# Altium integrated library TI Data Converters Analog to Digital Converter.IntLib: 2197 symbols (part 121 of 168)
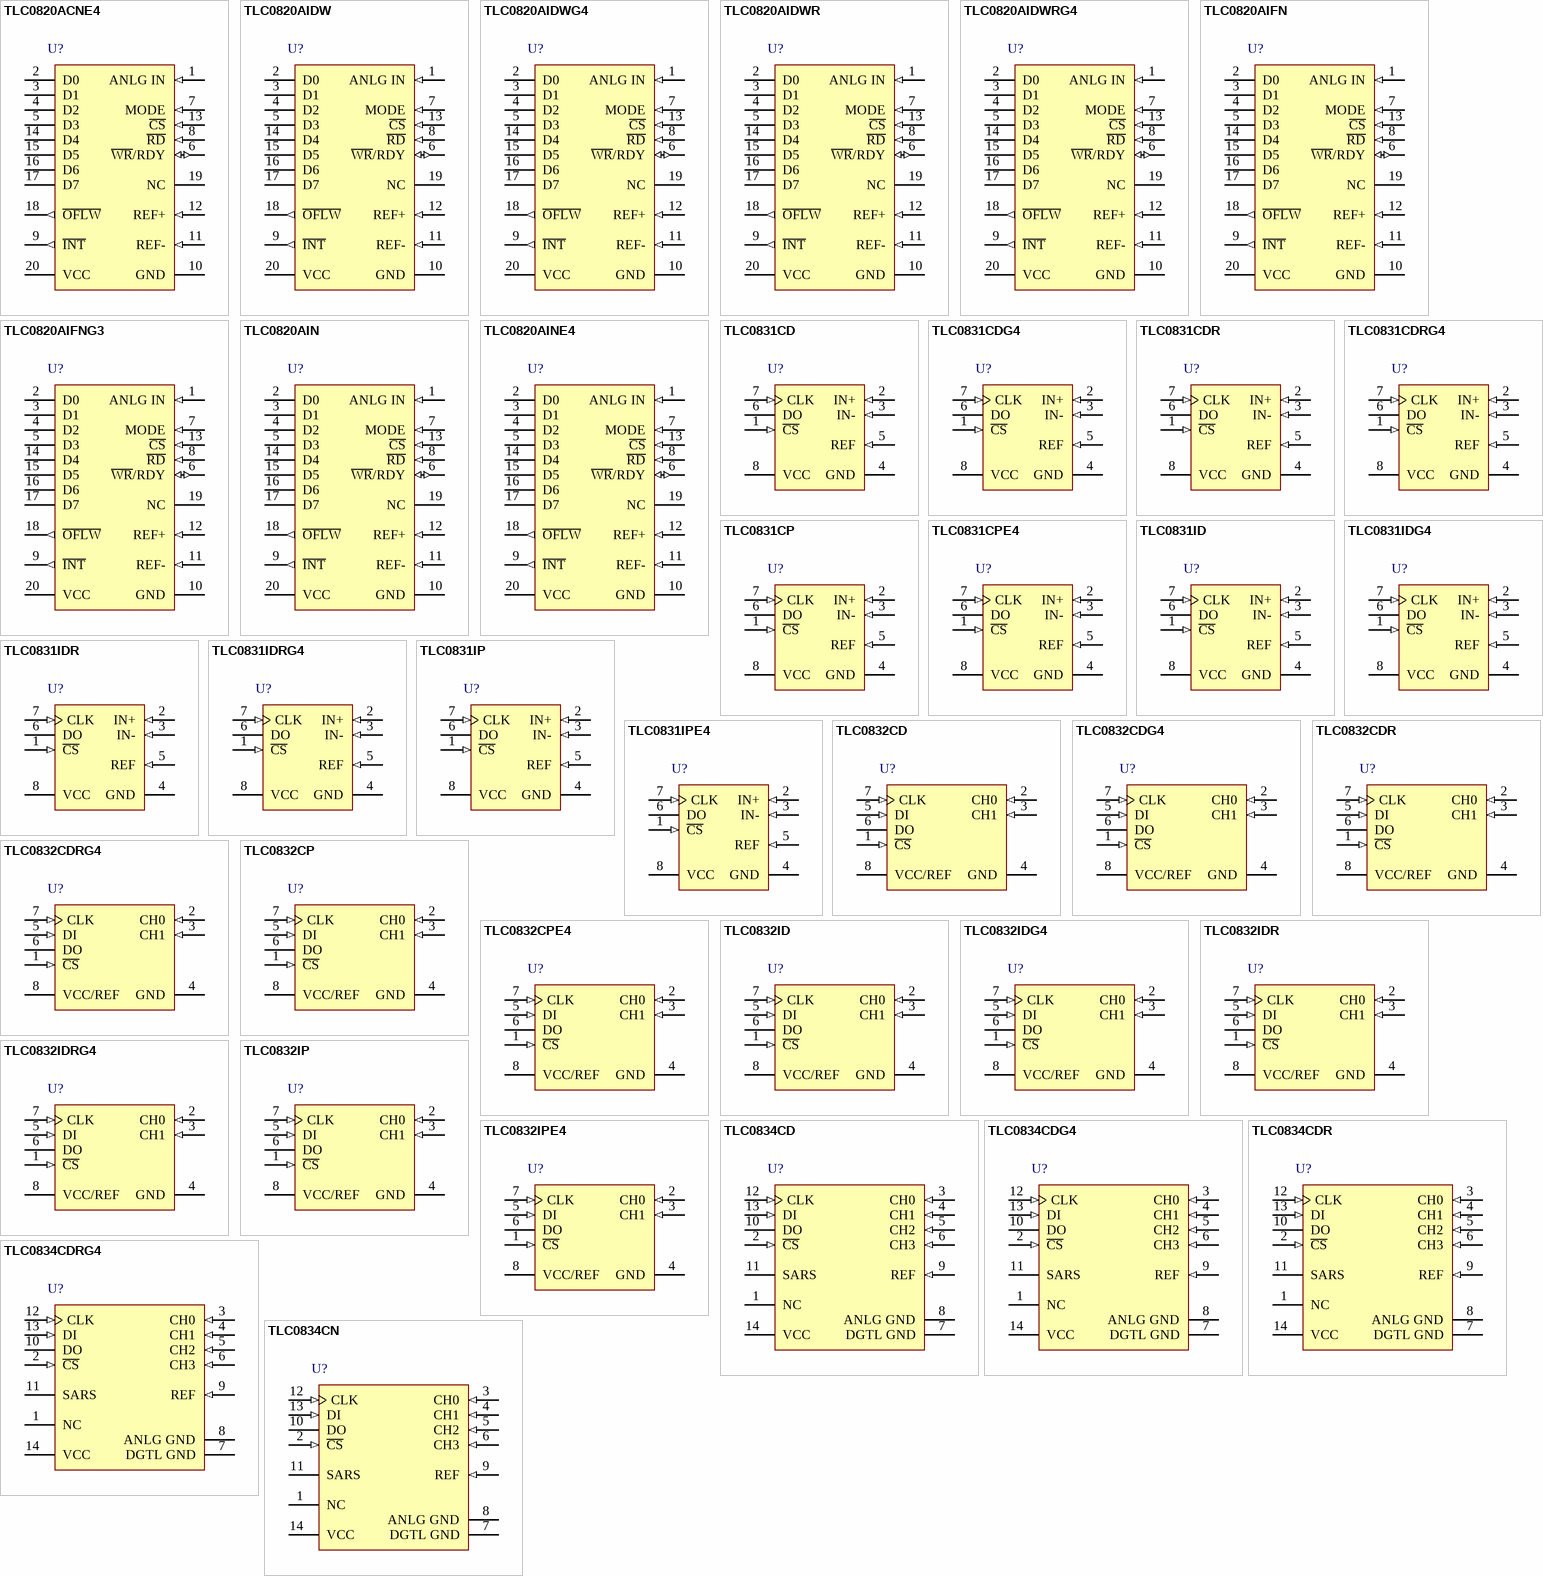
[diagram p246: symbols TLC0820ACNE4 to TLC0834CN]

## TLC0820AIFNG3
designator U?
8-Bit, 392 kSPS ADC Parallel Out, Microprocessor Peripheral, On-Chip Track-and-Hold, Single Channel, -40 to 85 degC, 20-pin PLCC (FN20), Green (RoHS & no Sb/Br); Manufacturer: Texas Instruments; PartNumber: TLC0820AIFNG3; # Input Channels: 1; Analog Voltage AV/DD(Max)(V): 8; Analog Voltage AV/DD(Min)(V): 4.5; Architecture: SAR; Interface: Parallel CMOS; Sample Rate (max)(SPS): 392k; SubFamily: Precision ADC (<=10MSPS); DatasheetVersion: SLAS064A; PackageVersion: 4040005/B, 03/1995; PackageReference: FN20; PackageDescription: 20-Pin Plastic Chip Carrier, Body 8.965 x 8.965 mm, Pitch 1.27 mm; Supplier 1: Digi-Key; Supplier Part Number 1: TLC2543IDBR-ND; Supplier 2: Mouser; Supplier Part Number 2: 595-TLC2543IDBR; Digital Supply(Max)(V): 8; Digital Supply(Min)(V): 4.5; Eco-Plan: Green (RoHS & no Sb/Br); Resolution(Bits): 8; Mounting Technology: Surface Mount; Code_JEDEC: MS-018; ComponentLink1Description: Manufacturer URL; ComponentLink1URL: http://www.ti.com/; ComponentLink2Description: Datasheet; ComponentLink2URL: http://www.ti.com/general/docs/lit/getliterature.tsp?genericPartNumber=TLC0820A&fileType=pdf; ComponentLink3Description: Package Specification; ComponentLink3URL: http://www.ti.com/litv/pdf/mplc004a
footprint TI-FN20_N (PLCC, 20-Leads, Body 8.965x8.965mm, Pitch 1.27mm, IPC Medium Density)
footprint TI-FN20_L (PLCC, 20-Leads, Body 8.965x8.965mm, Pitch 1.27mm, IPC High Density)
footprint TI-FN20_M (PLCC, 20-Leads, Body 8.965x8.965mm, Pitch 1.27mm, IPC Low Density)
pins: 1 ANLG IN (in) "Analog input", 2 D0 (hiz) "Digital, 3-state output data, bit 1 (LSB)", 3 D1 (hiz) "Digital, 3-state output data, bit 2", 4 D2 (hiz) "Digital, 3-state output data, bit 3", 5 D3 (hiz) "Digital, 3-state output data, bit 4", 6 ~{WR}/RDY (io) "Write ready. In the write-read mode with C\S\ low, the conversion is started on the falling edge of the W\R\ input signal. The result of the conversion is strobed into the output latch after the internal count-down delay (See Datasheet)", 7 MODE (in) "Mode select. MODE is internally tied to GND through a 50-uA current source, which acts like a pulldown resistor.When MODE is low, the read mode is selected. When MODE is high, the write-read mode is selected.", 8 ~{RD} (in) "Read. In the write-read mode with C\S\ low, the 3-state data outputs D0 through D7 are activated when R\D\ goes low. R\D\ can also be used to increase the conversion speed by reading data prior to the end of the internal (See Datasheet)", 9 ~{INT} (out) "Interrupt. In the write-read mode, the interrupt output (I\N\T\) going low indicates that the internal count-down delay time, td(int), is complete and the data result is in the output latch. The delay time td(int) is (See Datasheet)", 10 GND (power) "Ground", 11 REF- (in) "Reference voltage. REF- is placed on the bottom of the resistor ladder.", 12 REF+ (in) "Reference voltage. REF+ is placed on the top of the resistor ladder.", 13 ~{CS} (in) "Chip select. C\S\ must be low in order for R\D\ or W\R\ to be recognized by the ADC.", 14 D4 (hiz) "Digital, 3-state output data, bit 5", 15 D5 (hiz) "Digital, 3-state output data, bit 6", 16 D6 (hiz) "Digital, 3-state output data, bit 7", 17 D7 (hiz) "Digital, 3-state output data, bit 8 (MSB)", 18 ~{OFLW} (out) "Overflow. Normally O\F\L\W\ is a logical high. However, if the analog input is higher than Vref+, O\F\L\W\ will be low at the end of conversion. It can be used to cascade two or more devices to improve resolution (9 or 10 (See Datasheet)", 19 NC "No internal connection", 20 VCC (power) "Power supply voltage"

## TLC0820AIN
designator U?
8-Bit, 392 kSPS ADC Parallel Out, Microprocessor Peripheral, On-Chip Track-and-Hold, Single Channel, -40 to 85 degC, 20-pin DIP (N20), Pb-Free (RoHS); Manufacturer: Texas Instruments; PartNumber: TLC0820AIN; # Input Channels: 1; Analog Voltage AV/DD(Max)(V): 8; Analog Voltage AV/DD(Min)(V): 4.5; Architecture: SAR; Interface: Parallel CMOS; Sample Rate (max)(SPS): 392k; SubFamily: Precision ADC (<=10MSPS); DatasheetVersion: SLAS064A; PackageVersion: 4040049/E, 12/2002; PackageReference: N20; PackageDescription: 20-Pin Plastic In-Line, Body 25.40 x 6.35 mm, Pitch 2.54 mm; Supplier 1: Digi-Key; Supplier Part Number 1: TLC2543IDBRG4-ND; Supplier 2: Mouser; Supplier Part Number 2: 595-TLC2543IDBRG4; Digital Supply(Max)(V): 8; Digital Supply(Min)(V): 4.5; Eco-Plan: Pb-Free (RoHS); Resolution(Bits): 8; Mounting Technology: Through Hole; Code_JEDEC: MS-001; ComponentLink1Description: Manufacturer URL; ComponentLink1URL: http://www.ti.com/; ComponentLink2Description: Datasheet; ComponentLink2URL: http://www.ti.com/general/docs/lit/getliterature.tsp?genericPartNumber=TLC0820A&fileType=pdf; ComponentLink3Description: Package Specification; ComponentLink3URL: http://www.ti.com/lit/ml/mpdi002c/mpdi002c.pdf
footprint TI-N20 (DIP, 20-Leads, Body 25.4x6.35 mm, Pitch 2.54 mm)
pins: 1 ANLG IN (in) "Analog input", 2 D0 (hiz) "Digital, 3-state output data, bit 1 (LSB)", 3 D1 (hiz) "Digital, 3-state output data, bit 2", 4 D2 (hiz) "Digital, 3-state output data, bit 3", 5 D3 (hiz) "Digital, 3-state output data, bit 4", 6 ~{WR}/RDY (io) "Write ready. In the write-read mode with C\S\ low, the conversion is started on the falling edge of the W\R\ input signal. The result of the conversion is strobed into the output latch after the internal count-down delay (See Datasheet)", 7 MODE (in) "Mode select. MODE is internally tied to GND through a 50-uA current source, which acts like a pulldown resistor.When MODE is low, the read mode is selected. When MODE is high, the write-read mode is selected.", 8 ~{RD} (in) "Read. In the write-read mode with C\S\ low, the 3-state data outputs D0 through D7 are activated when R\D\ goes low. R\D\ can also be used to increase the conversion speed by reading data prior to the end of the internal (See Datasheet)", 9 ~{INT} (out) "Interrupt. In the write-read mode, the interrupt output (I\N\T\) going low indicates that the internal count-down delay time, td(int), is complete and the data result is in the output latch. The delay time td(int) is (See Datasheet)", 10 GND (power) "Ground", 11 REF- (in) "Reference voltage. REF- is placed on the bottom of the resistor ladder.", 12 REF+ (in) "Reference voltage. REF+ is placed on the top of the resistor ladder.", 13 ~{CS} (in) "Chip select. C\S\ must be low in order for R\D\ or W\R\ to be recognized by the ADC.", 14 D4 (hiz) "Digital, 3-state output data, bit 5", 15 D5 (hiz) "Digital, 3-state output data, bit 6", 16 D6 (hiz) "Digital, 3-state output data, bit 7", 17 D7 (hiz) "Digital, 3-state output data, bit 8 (MSB)", 18 ~{OFLW} (out) "Overflow. Normally O\F\L\W\ is a logical high. However, if the analog input is higher than Vref+, O\F\L\W\ will be low at the end of conversion. It can be used to cascade two or more devices to improve resolution (9 or 10 (See Datasheet)", 19 NC "No internal connection", 20 VCC (power) "Power supply voltage"

## TLC0820AINE4
designator U?
8-Bit, 392 kSPS ADC Parallel Out, Microprocessor Peripheral, On-Chip Track-and-Hold, Single Channel, -40 to 85 degC, 20-pin DIP (N20), Pb-Free (RoHS); Manufacturer: Texas Instruments; PartNumber: TLC0820AINE4; # Input Channels: 1; Analog Voltage AV/DD(Max)(V): 8; Analog Voltage AV/DD(Min)(V): 4.5; Architecture: SAR; Interface: Parallel CMOS; Sample Rate (max)(SPS): 392k; SubFamily: Precision ADC (<=10MSPS); DatasheetVersion: SLAS064A; PackageVersion: 4040049/E, 12/2002; PackageReference: N20; PackageDescription: 20-Pin Plastic In-Line, Body 25.40 x 6.35 mm, Pitch 2.54 mm; Supplier 1: Digi-Key; Supplier Part Number 1: 296-2900-5-ND; Supplier 2: Farnell; Supplier Part Number 2: 1564976; Supplier 3: Newark; Supplier Part Number 3: 08F9046; Supplier 4: Mouser; Supplier Part Number 4: 595-TLC2543IDW; Digital Supply(Max)(V): 8; Digital Supply(Min)(V): 4.5; Eco-Plan: Pb-Free (RoHS); Resolution(Bits): 8; Mounting Technology: Through Hole; Code_JEDEC: MS-001; ComponentLink1Description: Manufacturer URL; ComponentLink1URL: http://www.ti.com/; ComponentLink2Description: Datasheet; ComponentLink2URL: http://www.ti.com/general/docs/lit/getliterature.tsp?genericPartNumber=TLC0820A&fileType=pdf; ComponentLink3Description: Package Specification; ComponentLink3URL: http://www.ti.com/lit/ml/mpdi002c/mpdi002c.pdf
footprint TI-N20 (DIP, 20-Leads, Body 25.4x6.35 mm, Pitch 2.54 mm)
pins: 1 ANLG IN (in) "Analog input", 2 D0 (hiz) "Digital, 3-state output data, bit 1 (LSB)", 3 D1 (hiz) "Digital, 3-state output data, bit 2", 4 D2 (hiz) "Digital, 3-state output data, bit 3", 5 D3 (hiz) "Digital, 3-state output data, bit 4", 6 ~{WR}/RDY (io) "Write ready. In the write-read mode with C\S\ low, the conversion is started on the falling edge of the W\R\ input signal. The result of the conversion is strobed into the output latch after the internal count-down delay (See Datasheet)", 7 MODE (in) "Mode select. MODE is internally tied to GND through a 50-uA current source, which acts like a pulldown resistor.When MODE is low, the read mode is selected. When MODE is high, the write-read mode is selected.", 8 ~{RD} (in) "Read. In the write-read mode with C\S\ low, the 3-state data outputs D0 through D7 are activated when R\D\ goes low. R\D\ can also be used to increase the conversion speed by reading data prior to the end of the internal (See Datasheet)", 9 ~{INT} (out) "Interrupt. In the write-read mode, the interrupt output (I\N\T\) going low indicates that the internal count-down delay time, td(int), is complete and the data result is in the output latch. The delay time td(int) is (See Datasheet)", 10 GND (power) "Ground", 11 REF- (in) "Reference voltage. REF- is placed on the bottom of the resistor ladder.", 12 REF+ (in) "Reference voltage. REF+ is placed on the top of the resistor ladder.", 13 ~{CS} (in) "Chip select. C\S\ must be low in order for R\D\ or W\R\ to be recognized by the ADC.", 14 D4 (hiz) "Digital, 3-state output data, bit 5", 15 D5 (hiz) "Digital, 3-state output data, bit 6", 16 D6 (hiz) "Digital, 3-state output data, bit 7", 17 D7 (hiz) "Digital, 3-state output data, bit 8 (MSB)", 18 ~{OFLW} (out) "Overflow. Normally O\F\L\W\ is a logical high. However, if the analog input is higher than Vref+, O\F\L\W\ will be low at the end of conversion. It can be used to cascade two or more devices to improve resolution (9 or 10 (See Datasheet)", 19 NC "No internal connection", 20 VCC (power) "Power supply voltage"

## TLC0831CD
designator U?
8-Bit, 31 kSPS ADC Serial Out, Microprocessor Peripheral / Standalone, Single Channel, 0 to 70 degC, 8-pin SOIC (D8), Green (RoHS & no Sb/Br); Manufacturer: Texas Instruments; PartNumber: TLC0831CD; # Input Channels: 1; Analog Voltage AV/DD(Max)(V): 5.5; Analog Voltage AV/DD(Min)(V): 4.5; Architecture: SAR; Interface: Serial SPI; Resolution(Bits): 8; Sample Rate (max)(SPS): 31k; SubFamily: High Speed ADC (>10MSPS); DatasheetVersion: SLAS107B; PackageVersion: 4040047-3/M, 06/2011; PackageReference: D8; PackageDescription: 8-Pin Plastic Small Outline, Body 4.9 x 3.9 mm, Pitch 1.27 mm; Supplier 1: Digi-Key; Supplier Part Number 1: TLC2543IDWG4-ND; Supplier 2: Newark; Supplier Part Number 2: 54K0880; Supplier 3: Mouser; Supplier Part Number 3: 595-TLC2543IDWG4; Digital Supply(Max)(V): 5.5; Digital Supply(Min)(V): 4.5; Eco-Plan: Green (RoHS & no Sb/Br); Mounting Technology: Surface Mount; Code_JEDEC: MS-012; ComponentLink1Description: Manufacturer URL; ComponentLink1URL: http://www.ti.com/; ComponentLink2Description: Datasheet; ComponentLink2URL: http://www.ti.com/general/docs/lit/getliterature.tsp?genericPartNumber=TLC0831&fileType=pdf; ComponentLink3Description: Package Specification; ComponentLink3URL: http://www.ti.com/litv/pdf/msoi002j
footprint TI-D8_N (SOIC, 8-Leads, Body 4.9x3.9mm, Pitch 1.27mm, IPC Medium Density)
footprint TI-D8_L (SOIC, 8-Leads, Body 4.9x3.9mm, Pitch 1.27mm, IPC High Density)
footprint TI-D8_M (SOIC, 8-Leads, Body 4.9x3.9mm, Pitch 1.27mm, IPC Low Density)
pins: 1 ~{CS} (in), 2 IN+ (in), 3 IN- (in), 4 GND (power), 5 REF (in), 6 DO (hiz), 7 CLK (in), 8 VCC (power)

## TLC0831CDG4
designator U?
8-Bit, 31 kSPS ADC Serial Out, Microprocessor Peripheral / Standalone, Single Channel, 0 to 70 degC, 8-pin SOIC (D8), Green (RoHS & no Sb/Br); Manufacturer: Texas Instruments; PartNumber: TLC0831CDG4; # Input Channels: 1; Analog Voltage AV/DD(Max)(V): 5.5; Analog Voltage AV/DD(Min)(V): 4.5; Architecture: SAR; Interface: Serial SPI; Resolution(Bits): 8; Sample Rate (max)(SPS): 31k; SubFamily: High Speed ADC (>10MSPS); DatasheetVersion: SLAS107B; PackageVersion: 4040047-3/M, 06/2011; PackageReference: D8; PackageDescription: 8-Pin Plastic Small Outline, Body 4.9 x 3.9 mm, Pitch 1.27 mm; Supplier 1: Digi-Key; Supplier Part Number 1: 296-26740-2-ND; Supplier 2: Digi-Key; Supplier Part Number 2: 296-26740-1-ND; Supplier 3: Digi-Key; Supplier Part Number 3: 296-26740-6-ND; Supplier 4: Mouser; Supplier Part Number 4: 595-TLC2543IDWR; Digital Supply(Max)(V): 5.5; Digital Supply(Min)(V): 4.5; Eco-Plan: Green (RoHS & no Sb/Br); Mounting Technology: Surface Mount; Code_JEDEC: MS-012; ComponentLink1Description: Manufacturer URL; ComponentLink1URL: http://www.ti.com/; ComponentLink2Description: Datasheet; ComponentLink2URL: http://www.ti.com/general/docs/lit/getliterature.tsp?genericPartNumber=TLC0831&fileType=pdf; ComponentLink3Description: Package Specification; ComponentLink3URL: http://www.ti.com/litv/pdf/msoi002j
footprint TI-D8_N (SOIC, 8-Leads, Body 4.9x3.9mm, Pitch 1.27mm, IPC Medium Density)
footprint TI-D8_L (SOIC, 8-Leads, Body 4.9x3.9mm, Pitch 1.27mm, IPC High Density)
footprint TI-D8_M (SOIC, 8-Leads, Body 4.9x3.9mm, Pitch 1.27mm, IPC Low Density)
pins: 1 ~{CS} (in), 2 IN+ (in), 3 IN- (in), 4 GND (power), 5 REF (in), 6 DO (hiz), 7 CLK (in), 8 VCC (power)

## TLC0831CDR
designator U?
8-Bit, 31 kSPS ADC Serial Out, Microprocessor Peripheral / Standalone, Single Channel, 0 to 70 degC, 8-pin SOIC (D8), Green (RoHS & no Sb/Br); Manufacturer: Texas Instruments; PartNumber: TLC0831CDR; # Input Channels: 1; Analog Voltage AV/DD(Max)(V): 5.5; Analog Voltage AV/DD(Min)(V): 4.5; Architecture: SAR; Interface: Serial SPI; Resolution(Bits): 8; Sample Rate (max)(SPS): 31k; SubFamily: High Speed ADC (>10MSPS); DatasheetVersion: SLAS107B; PackageVersion: 4040047-3/M, 06/2011; PackageReference: D8; PackageDescription: 8-Pin Plastic Small Outline, Body 4.9 x 3.9 mm, Pitch 1.27 mm; Supplier 1: Digi-Key; Supplier Part Number 1: TLC2543IDWRG4-ND; Supplier 2: Mouser; Supplier Part Number 2: 595-TLC2543IDWRG4; Digital Supply(Max)(V): 5.5; Digital Supply(Min)(V): 4.5; Eco-Plan: Green (RoHS & no Sb/Br); Mounting Technology: Surface Mount; Code_JEDEC: MS-012; ComponentLink1Description: Manufacturer URL; ComponentLink1URL: http://www.ti.com/; ComponentLink2Description: Datasheet; ComponentLink2URL: http://www.ti.com/general/docs/lit/getliterature.tsp?genericPartNumber=TLC0831&fileType=pdf; ComponentLink3Description: Package Specification; ComponentLink3URL: http://www.ti.com/litv/pdf/msoi002j
footprint TI-D8_N (SOIC, 8-Leads, Body 4.9x3.9mm, Pitch 1.27mm, IPC Medium Density)
footprint TI-D8_L (SOIC, 8-Leads, Body 4.9x3.9mm, Pitch 1.27mm, IPC High Density)
footprint TI-D8_M (SOIC, 8-Leads, Body 4.9x3.9mm, Pitch 1.27mm, IPC Low Density)
pins: 1 ~{CS} (in), 2 IN+ (in), 3 IN- (in), 4 GND (power), 5 REF (in), 6 DO (hiz), 7 CLK (in), 8 VCC (power)

## TLC0831CDRG4
designator U?
8-Bit, 31 kSPS ADC Serial Out, Microprocessor Peripheral / Standalone, Single Channel, 0 to 70 degC, 8-pin SOIC (D8), Green (RoHS & no Sb/Br); Manufacturer: Texas Instruments; PartNumber: TLC0831CDRG4; # Input Channels: 1; Analog Voltage AV/DD(Max)(V): 5.5; Analog Voltage AV/DD(Min)(V): 4.5; Architecture: SAR; Interface: Serial SPI; Resolution(Bits): 8; Sample Rate (max)(SPS): 31k; SubFamily: High Speed ADC (>10MSPS); DatasheetVersion: SLAS107B; PackageVersion: 4040047-3/M, 06/2011; PackageReference: D8; PackageDescription: 8-Pin Plastic Small Outline, Body 4.9 x 3.9 mm, Pitch 1.27 mm; Supplier 1: Digi-Key; Supplier Part Number 1: 296-2901-5-ND; Supplier 2: Newark; Supplier Part Number 2: 76C6993; Supplier 3: Mouser; Supplier Part Number 3: 595-TLC2543IFN; Digital Supply(Max)(V): 5.5; Digital Supply(Min)(V): 4.5; Eco-Plan: Green (RoHS & no Sb/Br); Mounting Technology: Surface Mount; Code_JEDEC: MS-012; ComponentLink1Description: Manufacturer URL; ComponentLink1URL: http://www.ti.com/; ComponentLink2Description: Datasheet; ComponentLink2URL: http://www.ti.com/general/docs/lit/getliterature.tsp?genericPartNumber=TLC0831&fileType=pdf; ComponentLink3Description: Package Specification; ComponentLink3URL: http://www.ti.com/litv/pdf/msoi002j
footprint TI-D8_N (SOIC, 8-Leads, Body 4.9x3.9mm, Pitch 1.27mm, IPC Medium Density)
footprint TI-D8_L (SOIC, 8-Leads, Body 4.9x3.9mm, Pitch 1.27mm, IPC High Density)
footprint TI-D8_M (SOIC, 8-Leads, Body 4.9x3.9mm, Pitch 1.27mm, IPC Low Density)
pins: 1 ~{CS} (in), 2 IN+ (in), 3 IN- (in), 4 GND (power), 5 REF (in), 6 DO (hiz), 7 CLK (in), 8 VCC (power)

## TLC0831CP
designator U?
8-Bit, 31 kSPS ADC Serial Out, Microprocessor Peripheral / Standalone, Single Channel, 0 to 70 degC, 8-pin DIP (P8), Green (RoHS & no Sb/Br); Manufacturer: Texas Instruments; PartNumber: TLC0831CP; # Input Channels: 1; Analog Voltage AV/DD(Max)(V): 5.5; Analog Voltage AV/DD(Min)(V): 4.5; Architecture: SAR; Interface: Serial SPI; Resolution(Bits): 8; Sample Rate (max)(SPS): 31k; SubFamily: High Speed ADC (>10MSPS); DatasheetVersion: SLAS107B; PackageVersion: 4040082/E, 04/2010; PackageReference: P8; PackageDescription: 8-Pin Plastic In-Line, Body 9.59 x 6.35 mm, Pitch 2.54 mm; Supplier 1: Digi-Key; Supplier Part Number 1: TLC2543IFNG3-ND; Supplier 2: Mouser; Supplier Part Number 2: 595-TLC2543IFNG3; Digital Supply(Max)(V): 5.5; Digital Supply(Min)(V): 4.5; Eco-Plan: Green (RoHS & no Sb/Br); Mounting Technology: Through Hole; Code_JEDEC: MS-001; ComponentLink1Description: Manufacturer URL; ComponentLink1URL: http://www.ti.com/; ComponentLink2Description: Datasheet; ComponentLink2URL: http://www.ti.com/general/docs/lit/getliterature.tsp?genericPartNumber=TLC0831&fileType=pdf; ComponentLink3Description: Package Specification; ComponentLink3URL: http://www.ti.com/litv/pdf/mpdi001b
footprint TI-P8 (DIP, 8-Leads, Body 9.59x6.35mm, Pitch 2.54mm)
pins: 1 ~{CS} (in), 2 IN+ (in), 3 IN- (in), 4 GND (power), 5 REF (in), 6 DO (hiz), 7 CLK (in), 8 VCC (power)

## TLC0831CPE4
designator U?
8-Bit, 31 kSPS ADC Serial Out, Microprocessor Peripheral / Standalone, Single Channel, 0 to 70 degC, 8-pin DIP (P8), Green (RoHS & no Sb/Br); Manufacturer: Texas Instruments; PartNumber: TLC0831CPE4; # Input Channels: 1; Analog Voltage AV/DD(Max)(V): 5.5; Analog Voltage AV/DD(Min)(V): 4.5; Architecture: SAR; Interface: Serial SPI; Resolution(Bits): 8; Sample Rate (max)(SPS): 31k; SubFamily: High Speed ADC (>10MSPS); DatasheetVersion: SLAS107B; PackageVersion: 4040082/E, 04/2010; PackageReference: P8; PackageDescription: 8-Pin Plastic In-Line, Body 9.59 x 6.35 mm, Pitch 2.54 mm; Supplier 1: Digi-Key; Supplier Part Number 1: 296-1817-5-ND; Supplier 2: Farnell; Supplier Part Number 2: 8454116; Supplier 3: Mouser; Supplier Part Number 3: 595-TLC2543IN; Digital Supply(Max)(V): 5.5; Digital Supply(Min)(V): 4.5; Eco-Plan: Green (RoHS & no Sb/Br); Mounting Technology: Through Hole; Code_JEDEC: MS-001; ComponentLink1Description: Manufacturer URL; ComponentLink1URL: http://www.ti.com/; ComponentLink2Description: Datasheet; ComponentLink2URL: http://www.ti.com/general/docs/lit/getliterature.tsp?genericPartNumber=TLC0831&fileType=pdf; ComponentLink3Description: Package Specification; ComponentLink3URL: http://www.ti.com/litv/pdf/mpdi001b
footprint TI-P8 (DIP, 8-Leads, Body 9.59x6.35mm, Pitch 2.54mm)
pins: 1 ~{CS} (in), 2 IN+ (in), 3 IN- (in), 4 GND (power), 5 REF (in), 6 DO (hiz), 7 CLK (in), 8 VCC (power)

## TLC0831ID
designator U?
8-Bit, 31 kSPS ADC Serial Out, Microprocessor Peripheral / Standalone, Single Channel, -40 to 85 degC, 8-pin SOIC (D8), Green (RoHS & no Sb/Br); Manufacturer: Texas Instruments; PartNumber: TLC0831ID; # Input Channels: 1; Analog Voltage AV/DD(Max)(V): 5.5; Analog Voltage AV/DD(Min)(V): 4.5; Architecture: SAR; Interface: Serial SPI; Resolution(Bits): 8; Sample Rate (max)(SPS): 31k; SubFamily: High Speed ADC (>10MSPS); DatasheetVersion: SLAS107B; PackageVersion: 4040047-3/M, 06/2011; PackageReference: D8; PackageDescription: 8-Pin Plastic Small Outline, Body 4.9 x 3.9 mm, Pitch 1.27 mm; Supplier 1: Digi-Key; Supplier Part Number 1: TLC2543INE4-ND; Supplier 2: Newark; Supplier Part Number 2: 66K4345; Supplier 3: Mouser; Supplier Part Number 3: 595-TLC2543INE4; Digital Supply(Max)(V): 5.5; Digital Supply(Min)(V): 4.5; Eco-Plan: Green (RoHS & no Sb/Br); Mounting Technology: Surface Mount; Code_JEDEC: MS-012; ComponentLink1Description: Manufacturer URL; ComponentLink1URL: http://www.ti.com/; ComponentLink2Description: Datasheet; ComponentLink2URL: http://www.ti.com/general/docs/lit/getliterature.tsp?genericPartNumber=TLC0831&fileType=pdf; ComponentLink3Description: Package Specification; ComponentLink3URL: http://www.ti.com/litv/pdf/msoi002j
footprint TI-D8_N (SOIC, 8-Leads, Body 4.9x3.9mm, Pitch 1.27mm, IPC Medium Density)
footprint TI-D8_L (SOIC, 8-Leads, Body 4.9x3.9mm, Pitch 1.27mm, IPC High Density)
footprint TI-D8_M (SOIC, 8-Leads, Body 4.9x3.9mm, Pitch 1.27mm, IPC Low Density)
pins: 1 ~{CS} (in), 2 IN+ (in), 3 IN- (in), 4 GND (power), 5 REF (in), 6 DO (hiz), 7 CLK (in), 8 VCC (power)

## TLC0831IDG4
designator U?
8-Bit, 31 kSPS ADC Serial Out, Microprocessor Peripheral / Standalone, Single Channel, -40 to 85 degC, 8-pin SOIC (D8), Green (RoHS & no Sb/Br); Manufacturer: Texas Instruments; PartNumber: TLC0831IDG4; # Input Channels: 1; Analog Voltage AV/DD(Max)(V): 5.5; Analog Voltage AV/DD(Min)(V): 4.5; Architecture: SAR; Interface: Serial SPI; Resolution(Bits): 8; Sample Rate (max)(SPS): 31k; SubFamily: High Speed ADC (>10MSPS); DatasheetVersion: SLAS107B; PackageVersion: 4040047-3/M, 06/2011; PackageReference: D8; PackageDescription: 8-Pin Plastic Small Outline, Body 4.9 x 3.9 mm, Pitch 1.27 mm; Supplier 1: Digi-Key; Supplier Part Number 1: 296-2944-5-ND; Supplier 2: Newark; Supplier Part Number 2: 76C7740; Supplier 3: Mouser; Supplier Part Number 3: 595-TLV0831CD; Digital Supply(Max)(V): 5.5; Digital Supply(Min)(V): 4.5; Eco-Plan: Green (RoHS & no Sb/Br); Mounting Technology: Surface Mount; Code_JEDEC: MS-012; ComponentLink1Description: Manufacturer URL; ComponentLink1URL: http://www.ti.com/; ComponentLink2Description: Datasheet; ComponentLink2URL: http://www.ti.com/general/docs/lit/getliterature.tsp?genericPartNumber=TLC0831&fileType=pdf; ComponentLink3Description: Package Specification; ComponentLink3URL: http://www.ti.com/litv/pdf/msoi002j
footprint TI-D8_N (SOIC, 8-Leads, Body 4.9x3.9mm, Pitch 1.27mm, IPC Medium Density)
footprint TI-D8_L (SOIC, 8-Leads, Body 4.9x3.9mm, Pitch 1.27mm, IPC High Density)
footprint TI-D8_M (SOIC, 8-Leads, Body 4.9x3.9mm, Pitch 1.27mm, IPC Low Density)
pins: 1 ~{CS} (in), 2 IN+ (in), 3 IN- (in), 4 GND (power), 5 REF (in), 6 DO (hiz), 7 CLK (in), 8 VCC (power)

## TLC0831IDR
designator U?
8-Bit, 31 kSPS ADC Serial Out, Microprocessor Peripheral / Standalone, Single Channel, -40 to 85 degC, 8-pin SOIC (D8), Green (RoHS & no Sb/Br); Manufacturer: Texas Instruments; PartNumber: TLC0831IDR; # Input Channels: 1; Analog Voltage AV/DD(Max)(V): 5.5; Analog Voltage AV/DD(Min)(V): 4.5; Architecture: SAR; Interface: Serial SPI; Resolution(Bits): 8; Sample Rate (max)(SPS): 31k; SubFamily: High Speed ADC (>10MSPS); DatasheetVersion: SLAS107B; PackageVersion: 4040047-3/M, 06/2011; PackageReference: D8; PackageDescription: 8-Pin Plastic Small Outline, Body 4.9 x 3.9 mm, Pitch 1.27 mm; Supplier 1: Digi-Key; Supplier Part Number 1: TLV0831CDG4-ND; Supplier 2: Mouser; Supplier Part Number 2: 595-TLV0831CDG4; Digital Supply(Max)(V): 5.5; Digital Supply(Min)(V): 4.5; Eco-Plan: Green (RoHS & no Sb/Br); Mounting Technology: Surface Mount; Code_JEDEC: MS-012; ComponentLink1Description: Manufacturer URL; ComponentLink1URL: http://www.ti.com/; ComponentLink2Description: Datasheet; ComponentLink2URL: http://www.ti.com/general/docs/lit/getliterature.tsp?genericPartNumber=TLC0831&fileType=pdf; ComponentLink3Description: Package Specification; ComponentLink3URL: http://www.ti.com/litv/pdf/msoi002j
footprint TI-D8_N (SOIC, 8-Leads, Body 4.9x3.9mm, Pitch 1.27mm, IPC Medium Density)
footprint TI-D8_L (SOIC, 8-Leads, Body 4.9x3.9mm, Pitch 1.27mm, IPC High Density)
footprint TI-D8_M (SOIC, 8-Leads, Body 4.9x3.9mm, Pitch 1.27mm, IPC Low Density)
pins: 1 ~{CS} (in), 2 IN+ (in), 3 IN- (in), 4 GND (power), 5 REF (in), 6 DO (hiz), 7 CLK (in), 8 VCC (power)

## TLC0831IDRG4
designator U?
8-Bit, 31 kSPS ADC Serial Out, Microprocessor Peripheral / Standalone, Single Channel, -40 to 85 degC, 8-pin SOIC (D8), Green (RoHS & no Sb/Br); Manufacturer: Texas Instruments; PartNumber: TLC0831IDRG4; # Input Channels: 1; Analog Voltage AV/DD(Max)(V): 5.5; Analog Voltage AV/DD(Min)(V): 4.5; Architecture: SAR; Interface: Serial SPI; Resolution(Bits): 8; Sample Rate (max)(SPS): 31k; SubFamily: High Speed ADC (>10MSPS); DatasheetVersion: SLAS107B; PackageVersion: 4040047-3/M, 06/2011; PackageReference: D8; PackageDescription: 8-Pin Plastic Small Outline, Body 4.9 x 3.9 mm, Pitch 1.27 mm; Supplier 1: Digi-Key; Supplier Part Number 1: TLV0831CDR-ND; Supplier 2: Mouser; Supplier Part Number 2: 595-TLV0831CDR; Digital Supply(Max)(V): 5.5; Digital Supply(Min)(V): 4.5; Eco-Plan: Green (RoHS & no Sb/Br); Mounting Technology: Surface Mount; Code_JEDEC: MS-012; ComponentLink1Description: Manufacturer URL; ComponentLink1URL: http://www.ti.com/; ComponentLink2Description: Datasheet; ComponentLink2URL: http://www.ti.com/general/docs/lit/getliterature.tsp?genericPartNumber=TLC0831&fileType=pdf; ComponentLink3Description: Package Specification; ComponentLink3URL: http://www.ti.com/litv/pdf/msoi002j
footprint TI-D8_N (SOIC, 8-Leads, Body 4.9x3.9mm, Pitch 1.27mm, IPC Medium Density)
footprint TI-D8_L (SOIC, 8-Leads, Body 4.9x3.9mm, Pitch 1.27mm, IPC High Density)
footprint TI-D8_M (SOIC, 8-Leads, Body 4.9x3.9mm, Pitch 1.27mm, IPC Low Density)
pins: 1 ~{CS} (in), 2 IN+ (in), 3 IN- (in), 4 GND (power), 5 REF (in), 6 DO (hiz), 7 CLK (in), 8 VCC (power)

## TLC0831IP
designator U?
8-Bit, 31 kSPS ADC Serial Out, Microprocessor Peripheral / Standalone, Single Channel, -40 to 85 degC, 8-pin DIP (P8), Green (RoHS & no Sb/Br); Manufacturer: Texas Instruments; PartNumber: TLC0831IP; # Input Channels: 1; Analog Voltage AV/DD(Max)(V): 5.5; Analog Voltage AV/DD(Min)(V): 4.5; Architecture: SAR; Interface: Serial SPI; Resolution(Bits): 8; Sample Rate (max)(SPS): 31k; SubFamily: High Speed ADC (>10MSPS); DatasheetVersion: SLAS107B; PackageVersion: 4040082/E, 04/2010; PackageReference: P8; PackageDescription: 8-Pin Plastic In-Line, Body 9.59 x 6.35 mm, Pitch 2.54 mm; Supplier 1: Digi-Key; Supplier Part Number 1: TLV0831CDRG4-ND; Supplier 2: Mouser; Supplier Part Number 2: 595-TLV0831CDRG4; Digital Supply(Max)(V): 5.5; Digital Supply(Min)(V): 4.5; Eco-Plan: Green (RoHS & no Sb/Br); Mounting Technology: Through Hole; Code_JEDEC: MS-001; ComponentLink1Description: Manufacturer URL; ComponentLink1URL: http://www.ti.com/; ComponentLink2Description: Datasheet; ComponentLink2URL: http://www.ti.com/general/docs/lit/getliterature.tsp?genericPartNumber=TLC0831&fileType=pdf; ComponentLink3Description: Package Specification; ComponentLink3URL: http://www.ti.com/litv/pdf/mpdi001b
footprint TI-P8 (DIP, 8-Leads, Body 9.59x6.35mm, Pitch 2.54mm)
pins: 1 ~{CS} (in), 2 IN+ (in), 3 IN- (in), 4 GND (power), 5 REF (in), 6 DO (hiz), 7 CLK (in), 8 VCC (power)

## TLC0831IPE4
designator U?
8-Bit, 31 kSPS ADC Serial Out, Microprocessor Peripheral / Standalone, Single Channel, -40 to 85 degC, 8-pin DIP (P8), Green (RoHS & no Sb/Br); Manufacturer: Texas Instruments; PartNumber: TLC0831IPE4; # Input Channels: 1; Analog Voltage AV/DD(Max)(V): 5.5; Analog Voltage AV/DD(Min)(V): 4.5; Architecture: SAR; Interface: Serial SPI; Resolution(Bits): 8; Sample Rate (max)(SPS): 31k; SubFamily: High Speed ADC (>10MSPS); DatasheetVersion: SLAS107B; PackageVersion: 4040082/E, 04/2010; PackageReference: P8; PackageDescription: 8-Pin Plastic In-Line, Body 9.59 x 6.35 mm, Pitch 2.54 mm; Supplier 1: Digi-Key; Supplier Part Number 1: 296-2187-5-ND; Supplier 2: Newark; Supplier Part Number 2: 35C2168; Supplier 3: Mouser; Supplier Part Number 3: 595-TLV0831CP; Digital Supply(Max)(V): 5.5; Digital Supply(Min)(V): 4.5; Eco-Plan: Green (RoHS & no Sb/Br); Mounting Technology: Through Hole; Code_JEDEC: MS-001; ComponentLink1Description: Manufacturer URL; ComponentLink1URL: http://www.ti.com/; ComponentLink2Description: Datasheet; ComponentLink2URL: http://www.ti.com/general/docs/lit/getliterature.tsp?genericPartNumber=TLC0831&fileType=pdf; ComponentLink3Description: Package Specification; ComponentLink3URL: http://www.ti.com/litv/pdf/mpdi001b
footprint TI-P8 (DIP, 8-Leads, Body 9.59x6.35mm, Pitch 2.54mm)
pins: 1 ~{CS} (in), 2 IN+ (in), 3 IN- (in), 4 GND (power), 5 REF (in), 6 DO (hiz), 7 CLK (in), 8 VCC (power)

## TLC0832CD
designator U?
8-Bit, 22 kSPS ADC Serial Out, Microprocessor Peripheral / Standalone, Mux Option with Serial or Differential, 2 Channel, 0 to 70 degC, 8-pin SOIC (D8), Green (RoHS & no Sb/Br); Manufacturer: Texas Instruments; PartNumber: TLC0832CD; # Input Channels: 2; Analog Voltage AV/DD(Max)(V): 5.5; Analog Voltage AV/DD(Min)(V): 4.5; Architecture: SAR; Interface: Serial SPI; Resolution(Bits): 8; Sample Rate (max)(SPS): 22k; SubFamily: High Speed ADC (>10MSPS); DatasheetVersion: SLAS107B; PackageVersion: 4040047-3/M, 06/2011; PackageReference: D8; PackageDescription: 8-Pin Plastic Small Outline, Body 4.9 x 3.9 mm, Pitch 1.27 mm; Supplier 1: Digi-Key; Supplier Part Number 1: TLV0831CPE4-ND; Supplier 2: Mouser; Supplier Part Number 2: 595-TLV0831CPE4; Digital Supply(Max)(V): 5.5; Digital Supply(Min)(V): 4.5; Eco-Plan: Green (RoHS & no Sb/Br); Mounting Technology: Surface Mount; Code_JEDEC: MS-012; ComponentLink1Description: Manufacturer URL; ComponentLink1URL: http://www.ti.com/; ComponentLink2Description: Datasheet; ComponentLink2URL: http://www.ti.com/general/docs/lit/getliterature.tsp?genericPartNumber=TLC0832&fileType=pdf; ComponentLink3Description: Package Specification; ComponentLink3URL: http://www.ti.com/litv/pdf/msoi002j
footprint TI-D8_N (SOIC, 8-Leads, Body 4.9x3.9mm, Pitch 1.27mm, IPC Medium Density)
footprint TI-D8_L (SOIC, 8-Leads, Body 4.9x3.9mm, Pitch 1.27mm, IPC High Density)
footprint TI-D8_M (SOIC, 8-Leads, Body 4.9x3.9mm, Pitch 1.27mm, IPC Low Density)
pins: 1 ~{CS} (in), 2 CH0 (in), 3 CH1 (in), 4 GND (power), 5 DI (in), 6 DO (hiz), 7 CLK (in), 8 VCC/REF (power)

## TLC0832CDG4
designator U?
8-Bit, 22 kSPS ADC Serial Out, Microprocessor Peripheral / Standalone, Mux Option with Serial or Differential, 2 Channel, 0 to 70 degC, 8-pin SOIC (D8), Green (RoHS & no Sb/Br); Manufacturer: Texas Instruments; PartNumber: TLC0832CDG4; # Input Channels: 2; Analog Voltage AV/DD(Max)(V): 5.5; Analog Voltage AV/DD(Min)(V): 4.5; Architecture: SAR; Interface: Serial SPI; Resolution(Bits): 8; Sample Rate (max)(SPS): 22k; SubFamily: High Speed ADC (>10MSPS); DatasheetVersion: SLAS107B; PackageVersion: 4040047-3/M, 06/2011; PackageReference: D8; PackageDescription: 8-Pin Plastic Small Outline, Body 4.9 x 3.9 mm, Pitch 1.27 mm; Supplier 1: Digi-Key; Supplier Part Number 1: 296-2945-5-ND; Supplier 2: Newark; Supplier Part Number 2: 76C7742; Supplier 3: Mouser; Supplier Part Number 3: 595-TLV0831ID; Digital Supply(Max)(V): 5.5; Digital Supply(Min)(V): 4.5; Eco-Plan: Green (RoHS & no Sb/Br); Mounting Technology: Surface Mount; Code_JEDEC: MS-012; ComponentLink1Description: Manufacturer URL; ComponentLink1URL: http://www.ti.com/; ComponentLink2Description: Datasheet; ComponentLink2URL: http://www.ti.com/general/docs/lit/getliterature.tsp?genericPartNumber=TLC0832&fileType=pdf; ComponentLink3Description: Package Specification; ComponentLink3URL: http://www.ti.com/litv/pdf/msoi002j
footprint TI-D8_N (SOIC, 8-Leads, Body 4.9x3.9mm, Pitch 1.27mm, IPC Medium Density)
footprint TI-D8_L (SOIC, 8-Leads, Body 4.9x3.9mm, Pitch 1.27mm, IPC High Density)
footprint TI-D8_M (SOIC, 8-Leads, Body 4.9x3.9mm, Pitch 1.27mm, IPC Low Density)
pins: 1 ~{CS} (in), 2 CH0 (in), 3 CH1 (in), 4 GND (power), 5 DI (in), 6 DO (hiz), 7 CLK (in), 8 VCC/REF (power)

## TLC0832CDR
designator U?
8-Bit, 22 kSPS ADC Serial Out, Microprocessor Peripheral / Standalone, Mux Option with Serial or Differential, 2 Channel, 0 to 70 degC, 8-pin SOIC (D8), Green (RoHS & no Sb/Br); Manufacturer: Texas Instruments; PartNumber: TLC0832CDR; # Input Channels: 2; Analog Voltage AV/DD(Max)(V): 5.5; Analog Voltage AV/DD(Min)(V): 4.5; Architecture: SAR; Interface: Serial SPI; Resolution(Bits): 8; Sample Rate (max)(SPS): 22k; SubFamily: High Speed ADC (>10MSPS); DatasheetVersion: SLAS107B; PackageVersion: 4040047-3/M, 06/2011; PackageReference: D8; PackageDescription: 8-Pin Plastic Small Outline, Body 4.9 x 3.9 mm, Pitch 1.27 mm; Supplier 1: Digi-Key; Supplier Part Number 1: TLV0831IDG4-ND; Supplier 2: Mouser; Supplier Part Number 2: 595-TLV0831IDG4; Digital Supply(Max)(V): 5.5; Digital Supply(Min)(V): 4.5; Eco-Plan: Green (RoHS & no Sb/Br); Mounting Technology: Surface Mount; Code_JEDEC: MS-012; ComponentLink1Description: Manufacturer URL; ComponentLink1URL: http://www.ti.com/; ComponentLink2Description: Datasheet; ComponentLink2URL: http://www.ti.com/general/docs/lit/getliterature.tsp?genericPartNumber=TLC0832&fileType=pdf; ComponentLink3Description: Package Specification; ComponentLink3URL: http://www.ti.com/litv/pdf/msoi002j
footprint TI-D8_N (SOIC, 8-Leads, Body 4.9x3.9mm, Pitch 1.27mm, IPC Medium Density)
footprint TI-D8_L (SOIC, 8-Leads, Body 4.9x3.9mm, Pitch 1.27mm, IPC High Density)
footprint TI-D8_M (SOIC, 8-Leads, Body 4.9x3.9mm, Pitch 1.27mm, IPC Low Density)
pins: 1 ~{CS} (in), 2 CH0 (in), 3 CH1 (in), 4 GND (power), 5 DI (in), 6 DO (hiz), 7 CLK (in), 8 VCC/REF (power)

## TLC0832CDRG4
designator U?
8-Bit, 22 kSPS ADC Serial Out, Microprocessor Peripheral / Standalone, Mux Option with Serial or Differential, 2 Channel, 0 to 70 degC, 8-pin SOIC (D8), Green (RoHS & no Sb/Br); Manufacturer: Texas Instruments; PartNumber: TLC0832CDRG4; # Input Channels: 2; Analog Voltage AV/DD(Max)(V): 5.5; Analog Voltage AV/DD(Min)(V): 4.5; Architecture: SAR; Interface: Serial SPI; Resolution(Bits): 8; Sample Rate (max)(SPS): 22k; SubFamily: High Speed ADC (>10MSPS); DatasheetVersion: SLAS107B; PackageVersion: 4040047-3/M, 06/2011; PackageReference: D8; PackageDescription: 8-Pin Plastic Small Outline, Body 4.9 x 3.9 mm, Pitch 1.27 mm; Supplier 1: Digi-Key; Supplier Part Number 1: TLV0831IDR-ND; Supplier 2: Mouser; Supplier Part Number 2: 595-TLV0831IDR; Digital Supply(Max)(V): 5.5; Digital Supply(Min)(V): 4.5; Eco-Plan: Green (RoHS & no Sb/Br); Mounting Technology: Surface Mount; Code_JEDEC: MS-012; ComponentLink1Description: Manufacturer URL; ComponentLink1URL: http://www.ti.com/; ComponentLink2Description: Datasheet; ComponentLink2URL: http://www.ti.com/general/docs/lit/getliterature.tsp?genericPartNumber=TLC0832&fileType=pdf; ComponentLink3Description: Package Specification; ComponentLink3URL: http://www.ti.com/litv/pdf/msoi002j
footprint TI-D8_N (SOIC, 8-Leads, Body 4.9x3.9mm, Pitch 1.27mm, IPC Medium Density)
footprint TI-D8_L (SOIC, 8-Leads, Body 4.9x3.9mm, Pitch 1.27mm, IPC High Density)
footprint TI-D8_M (SOIC, 8-Leads, Body 4.9x3.9mm, Pitch 1.27mm, IPC Low Density)
pins: 1 ~{CS} (in), 2 CH0 (in), 3 CH1 (in), 4 GND (power), 5 DI (in), 6 DO (hiz), 7 CLK (in), 8 VCC/REF (power)

## TLC0832CP
designator U?
8-Bit, 22 kSPS ADC Serial Out, Microprocessor Peripheral / Standalone, Mux Option with Serial or Differential, 2 Channel, 0 to 70 degC, 8-pin DIP (P8), Green (RoHS & no Sb/Br); Manufacturer: Texas Instruments; PartNumber: TLC0832CP; # Input Channels: 2; Analog Voltage AV/DD(Max)(V): 5.5; Analog Voltage AV/DD(Min)(V): 4.5; Architecture: SAR; Interface: Serial SPI; Resolution(Bits): 8; Sample Rate (max)(SPS): 22k; SubFamily: High Speed ADC (>10MSPS); DatasheetVersion: SLAS107B; PackageVersion: 4040082/E, 04/2010; PackageReference: P8; PackageDescription: 8-Pin Plastic In-Line, Body 9.59 x 6.35 mm, Pitch 2.54 mm; Supplier 1: Digi-Key; Supplier Part Number 1: TLV0831IDRG4-ND; Supplier 2: Mouser; Supplier Part Number 2: 595-TLV0831IDRG4; Digital Supply(Max)(V): 5.5; Digital Supply(Min)(V): 4.5; Eco-Plan: Green (RoHS & no Sb/Br); Mounting Technology: Through Hole; Code_JEDEC: MS-001; ComponentLink1Description: Manufacturer URL; ComponentLink1URL: http://www.ti.com/; ComponentLink2Description: Datasheet; ComponentLink2URL: http://www.ti.com/general/docs/lit/getliterature.tsp?genericPartNumber=TLC0832&fileType=pdf; ComponentLink3Description: Package Specification; ComponentLink3URL: http://www.ti.com/litv/pdf/mpdi001b
footprint TI-P8 (DIP, 8-Leads, Body 9.59x6.35mm, Pitch 2.54mm)
pins: 1 ~{CS} (in), 2 CH0 (in), 3 CH1 (in), 4 GND (power), 5 DI (in), 6 DO (hiz), 7 CLK (in), 8 VCC/REF (power)

## TLC0832CPE4
designator U?
8-Bit, 22 kSPS ADC Serial Out, Microprocessor Peripheral / Standalone, Mux Option with Serial or Differential, 2 Channel, 0 to 70 degC, 8-pin DIP (P8), Green (RoHS & no Sb/Br); Manufacturer: Texas Instruments; PartNumber: TLC0832CPE4; # Input Channels: 2; Analog Voltage AV/DD(Max)(V): 5.5; Analog Voltage AV/DD(Min)(V): 4.5; Architecture: SAR; Interface: Serial SPI; Resolution(Bits): 8; Sample Rate (max)(SPS): 22k; SubFamily: High Speed ADC (>10MSPS); DatasheetVersion: SLAS107B; PackageVersion: 4040082/E, 04/2010; PackageReference: P8; PackageDescription: 8-Pin Plastic In-Line, Body 9.59 x 6.35 mm, Pitch 2.54 mm; Supplier 1: Digi-Key; Supplier Part Number 1: 296-2946-5-ND; Supplier 2: Mouser; Supplier Part Number 2: 595-TLV0831IP; Digital Supply(Max)(V): 5.5; Digital Supply(Min)(V): 4.5; Eco-Plan: Green (RoHS & no Sb/Br); Mounting Technology: Through Hole; Code_JEDEC: MS-001; ComponentLink1Description: Manufacturer URL; ComponentLink1URL: http://www.ti.com/; ComponentLink2Description: Datasheet; ComponentLink2URL: http://www.ti.com/general/docs/lit/getliterature.tsp?genericPartNumber=TLC0832&fileType=pdf; ComponentLink3Description: Package Specification; ComponentLink3URL: http://www.ti.com/litv/pdf/mpdi001b
footprint TI-P8 (DIP, 8-Leads, Body 9.59x6.35mm, Pitch 2.54mm)
pins: 1 ~{CS} (in), 2 CH0 (in), 3 CH1 (in), 4 GND (power), 5 DI (in), 6 DO (hiz), 7 CLK (in), 8 VCC/REF (power)

## TLC0832ID
designator U?
8-Bit, 22 kSPS ADC Serial Out, Microprocessor Peripheral / Standalone, Mux Option with Serial or Differential, 2 Channel, -40 to 85 degC, 8-pin SOIC (D8), Green (RoHS & no Sb/Br); Manufacturer: Texas Instruments; PartNumber: TLC0832ID; # Input Channels: 2; Analog Voltage AV/DD(Max)(V): 5.5; Analog Voltage AV/DD(Min)(V): 4.5; Architecture: SAR; Interface: Serial SPI; Resolution(Bits): 8; Sample Rate (max)(SPS): 22k; SubFamily: High Speed ADC (>10MSPS); DatasheetVersion: SLAS107B; PackageVersion: 4040047-3/M, 06/2011; PackageReference: D8; PackageDescription: 8-Pin Plastic Small Outline, Body 4.9 x 3.9 mm, Pitch 1.27 mm; Supplier 1: Digi-Key; Supplier Part Number 1: TLV0831IPE4-ND; Supplier 2: Mouser; Supplier Part Number 2: 595-TLV0831IPE4; Digital Supply(Max)(V): 5.5; Digital Supply(Min)(V): 4.5; Eco-Plan: Green (RoHS & no Sb/Br); Mounting Technology: Surface Mount; Code_JEDEC: MS-012; ComponentLink1Description: Manufacturer URL; ComponentLink1URL: http://www.ti.com/; ComponentLink2Description: Datasheet; ComponentLink2URL: http://www.ti.com/general/docs/lit/getliterature.tsp?genericPartNumber=TLC0832&fileType=pdf; ComponentLink3Description: Package Specification; ComponentLink3URL: http://www.ti.com/litv/pdf/msoi002j
footprint TI-D8_N (SOIC, 8-Leads, Body 4.9x3.9mm, Pitch 1.27mm, IPC Medium Density)
footprint TI-D8_L (SOIC, 8-Leads, Body 4.9x3.9mm, Pitch 1.27mm, IPC High Density)
footprint TI-D8_M (SOIC, 8-Leads, Body 4.9x3.9mm, Pitch 1.27mm, IPC Low Density)
pins: 1 ~{CS} (in), 2 CH0 (in), 3 CH1 (in), 4 GND (power), 5 DI (in), 6 DO (hiz), 7 CLK (in), 8 VCC/REF (power)

## TLC0832IDG4
designator U?
8-Bit, 22 kSPS ADC Serial Out, Microprocessor Peripheral / Standalone, Mux Option with Serial or Differential, 2 Channel, -40 to 85 degC, 8-pin SOIC (D8), Green (RoHS & no Sb/Br); Manufacturer: Texas Instruments; PartNumber: TLC0832IDG4; # Input Channels: 2; Analog Voltage AV/DD(Max)(V): 5.5; Analog Voltage AV/DD(Min)(V): 4.5; Architecture: SAR; Interface: Serial SPI; Resolution(Bits): 8; Sample Rate (max)(SPS): 22k; SubFamily: High Speed ADC (>10MSPS); DatasheetVersion: SLAS107B; PackageVersion: 4040047-3/M, 06/2011; PackageReference: D8; PackageDescription: 8-Pin Plastic Small Outline, Body 4.9 x 3.9 mm, Pitch 1.27 mm; Supplier 1: Digi-Key; Supplier Part Number 1: 296-2934-5-ND; Supplier 2: Farnell; Supplier Part Number 2: 1459376; Supplier 3: Newark; Supplier Part Number 3: 08F9133; Supplier 4: Mouser; Supplier Part Number 4: 595-TLC548CD; Digital Supply(Max)(V): 5.5; Digital Supply(Min)(V): 4.5; Eco-Plan: Green (RoHS & no Sb/Br); Mounting Technology: Surface Mount; Code_JEDEC: MS-012; ComponentLink1Description: Manufacturer URL; ComponentLink1URL: http://www.ti.com/; ComponentLink2Description: Datasheet; ComponentLink2URL: http://www.ti.com/general/docs/lit/getliterature.tsp?genericPartNumber=TLC0832&fileType=pdf; ComponentLink3Description: Package Specification; ComponentLink3URL: http://www.ti.com/litv/pdf/msoi002j
footprint TI-D8_N (SOIC, 8-Leads, Body 4.9x3.9mm, Pitch 1.27mm, IPC Medium Density)
footprint TI-D8_L (SOIC, 8-Leads, Body 4.9x3.9mm, Pitch 1.27mm, IPC High Density)
footprint TI-D8_M (SOIC, 8-Leads, Body 4.9x3.9mm, Pitch 1.27mm, IPC Low Density)
pins: 1 ~{CS} (in), 2 CH0 (in), 3 CH1 (in), 4 GND (power), 5 DI (in), 6 DO (hiz), 7 CLK (in), 8 VCC/REF (power)

## TLC0832IDR
designator U?
8-Bit, 22 kSPS ADC Serial Out, Microprocessor Peripheral / Standalone, Mux Option with Serial or Differential, 2 Channel, -40 to 85 degC, 8-pin SOIC (D8), Green (RoHS & no Sb/Br); Manufacturer: Texas Instruments; PartNumber: TLC0832IDR; # Input Channels: 2; Analog Voltage AV/DD(Max)(V): 5.5; Analog Voltage AV/DD(Min)(V): 4.5; Architecture: SAR; Interface: Serial SPI; Resolution(Bits): 8; Sample Rate (max)(SPS): 22k; SubFamily: High Speed ADC (>10MSPS); DatasheetVersion: SLAS107B; PackageVersion: 4040047-3/M, 06/2011; PackageReference: D8; PackageDescription: 8-Pin Plastic Small Outline, Body 4.9 x 3.9 mm, Pitch 1.27 mm; Supplier 1: Digi-Key; Supplier Part Number 1: TLC548CDG4-ND; Supplier 2: Mouser; Supplier Part Number 2: 595-TLC548CDG4; Digital Supply(Max)(V): 5.5; Digital Supply(Min)(V): 4.5; Eco-Plan: Green (RoHS & no Sb/Br); Mounting Technology: Surface Mount; Code_JEDEC: MS-012; ComponentLink1Description: Manufacturer URL; ComponentLink1URL: http://www.ti.com/; ComponentLink2Description: Datasheet; ComponentLink2URL: http://www.ti.com/general/docs/lit/getliterature.tsp?genericPartNumber=TLC0832&fileType=pdf; ComponentLink3Description: Package Specification; ComponentLink3URL: http://www.ti.com/litv/pdf/msoi002j
footprint TI-D8_N (SOIC, 8-Leads, Body 4.9x3.9mm, Pitch 1.27mm, IPC Medium Density)
footprint TI-D8_L (SOIC, 8-Leads, Body 4.9x3.9mm, Pitch 1.27mm, IPC High Density)
footprint TI-D8_M (SOIC, 8-Leads, Body 4.9x3.9mm, Pitch 1.27mm, IPC Low Density)
pins: 1 ~{CS} (in), 2 CH0 (in), 3 CH1 (in), 4 GND (power), 5 DI (in), 6 DO (hiz), 7 CLK (in), 8 VCC/REF (power)

## TLC0832IDRG4
designator U?
8-Bit, 22 kSPS ADC Serial Out, Microprocessor Peripheral / Standalone, Mux Option with Serial or Differential, 2 Channel, -40 to 85 degC, 8-pin SOIC (D8), Green (RoHS & no Sb/Br); Manufacturer: Texas Instruments; PartNumber: TLC0832IDRG4; # Input Channels: 2; Analog Voltage AV/DD(Max)(V): 5.5; Analog Voltage AV/DD(Min)(V): 4.5; Architecture: SAR; Interface: Serial SPI; Resolution(Bits): 8; Sample Rate (max)(SPS): 22k; SubFamily: High Speed ADC (>10MSPS); DatasheetVersion: SLAS107B; PackageVersion: 4040047-3/M, 06/2011; PackageReference: D8; PackageDescription: 8-Pin Plastic Small Outline, Body 4.9 x 3.9 mm, Pitch 1.27 mm; Supplier 1: Digi-Key; Supplier Part Number 1: TLC548CDR-ND; Supplier 2: Mouser; Supplier Part Number 2: 595-TLC548CDR; Digital Supply(Max)(V): 5.5; Digital Supply(Min)(V): 4.5; Eco-Plan: Green (RoHS & no Sb/Br); Mounting Technology: Surface Mount; Code_JEDEC: MS-012; ComponentLink1Description: Manufacturer URL; ComponentLink1URL: http://www.ti.com/; ComponentLink2Description: Datasheet; ComponentLink2URL: http://www.ti.com/general/docs/lit/getliterature.tsp?genericPartNumber=TLC0832&fileType=pdf; ComponentLink3Description: Package Specification; ComponentLink3URL: http://www.ti.com/litv/pdf/msoi002j
footprint TI-D8_N (SOIC, 8-Leads, Body 4.9x3.9mm, Pitch 1.27mm, IPC Medium Density)
footprint TI-D8_L (SOIC, 8-Leads, Body 4.9x3.9mm, Pitch 1.27mm, IPC High Density)
footprint TI-D8_M (SOIC, 8-Leads, Body 4.9x3.9mm, Pitch 1.27mm, IPC Low Density)
pins: 1 ~{CS} (in), 2 CH0 (in), 3 CH1 (in), 4 GND (power), 5 DI (in), 6 DO (hiz), 7 CLK (in), 8 VCC/REF (power)

## TLC0832IP
designator U?
8-Bit, 22 kSPS ADC Serial Out, Microprocessor Peripheral / Standalone, Mux Option with Serial or Differential, 2 Channel, -40 to 85 degC, 8-pin DIP (P8), Green (RoHS & no Sb/Br); Manufacturer: Texas Instruments; PartNumber: TLC0832IP; # Input Channels: 2; Analog Voltage AV/DD(Max)(V): 5.5; Analog Voltage AV/DD(Min)(V): 4.5; Architecture: SAR; Interface: Serial SPI; Resolution(Bits): 8; Sample Rate (max)(SPS): 22k; SubFamily: High Speed ADC (>10MSPS); DatasheetVersion: SLAS107B; PackageVersion: 4040082/E, 04/2010; PackageReference: P8; PackageDescription: 8-Pin Plastic In-Line, Body 9.59 x 6.35 mm, Pitch 2.54 mm; Supplier 1: Digi-Key; Supplier Part Number 1: TLC548CDRG4-ND; Supplier 2: Mouser; Supplier Part Number 2: 595-TLC548CDRG4; Digital Supply(Max)(V): 5.5; Digital Supply(Min)(V): 4.5; Eco-Plan: Green (RoHS & no Sb/Br); Mounting Technology: Through Hole; Code_JEDEC: MS-001; ComponentLink1Description: Manufacturer URL; ComponentLink1URL: http://www.ti.com/; ComponentLink2Description: Datasheet; ComponentLink2URL: http://www.ti.com/general/docs/lit/getliterature.tsp?genericPartNumber=TLC0832&fileType=pdf; ComponentLink3Description: Package Specification; ComponentLink3URL: http://www.ti.com/litv/pdf/mpdi001b
footprint TI-P8 (DIP, 8-Leads, Body 9.59x6.35mm, Pitch 2.54mm)
pins: 1 ~{CS} (in), 2 CH0 (in), 3 CH1 (in), 4 GND (power), 5 DI (in), 6 DO (hiz), 7 CLK (in), 8 VCC/REF (power)

## TLC0832IPE4
designator U?
8-Bit, 22 kSPS ADC Serial Out, Microprocessor Peripheral / Standalone, Mux Option with Serial or Differential, 2 Channel, -40 to 85 degC, 8-pin DIP (P8), Green (RoHS & no Sb/Br); Manufacturer: Texas Instruments; PartNumber: TLC0832IPE4; # Input Channels: 2; Analog Voltage AV/DD(Max)(V): 5.5; Analog Voltage AV/DD(Min)(V): 4.5; Architecture: SAR; Interface: Serial SPI; Resolution(Bits): 8; Sample Rate (max)(SPS): 22k; SubFamily: High Speed ADC (>10MSPS); DatasheetVersion: SLAS107B; PackageVersion: 4040082/E, 04/2010; PackageReference: P8; PackageDescription: 8-Pin Plastic In-Line, Body 9.59 x 6.35 mm, Pitch 2.54 mm; Supplier 1: Digi-Key; Supplier Part Number 1: 296-2935-5-ND; Supplier 2: Farnell; Supplier Part Number 2: 8454345; Supplier 3: Newark; Supplier Part Number 3: 38K8357; Supplier 4: Newark; Supplier Part Number 4: 35K1216; Supplier 5: Mouser; Supplier Part Number 5: 595-TLC548CP; Digital Supply(Max)(V): 5.5; Digital Supply(Min)(V): 4.5; Eco-Plan: Green (RoHS & no Sb/Br); Mounting Technology: Through Hole; Code_JEDEC: MS-001; ComponentLink1Description: Manufacturer URL; ComponentLink1URL: http://www.ti.com/; ComponentLink2Description: Datasheet; ComponentLink2URL: http://www.ti.com/general/docs/lit/getliterature.tsp?genericPartNumber=TLC0832&fileType=pdf; ComponentLink3Description: Package Specification; ComponentLink3URL: http://www.ti.com/litv/pdf/mpdi001b
footprint TI-P8 (DIP, 8-Leads, Body 9.59x6.35mm, Pitch 2.54mm)
pins: 1 ~{CS} (in), 2 CH0 (in), 3 CH1 (in), 4 GND (power), 5 DI (in), 6 DO (hiz), 7 CLK (in), 8 VCC/REF (power)